# Altium schematic symbol library XFRMR H1102NLT.Schlib: 1 symbol
Pins are listed as number, name and electrical type; pins without a type are passive.

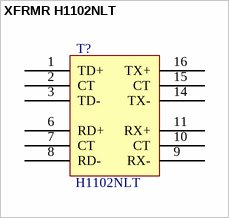
[diagram p0: symbol XFRMR H1102NLT]

## XFRMR H1102NLT
designator T?, comment H1102NLT
Isolation and Data Interface (Encapsulated) Pulse Transformer 1:1 Transmitter, 1:1 Receiver Surface Mount
pins: 1 TD+, 2 CT, 3 TD-, 6 RD+, 7 CT, 8 RD-, 9 RX-, 10 CT, 11 RX+, 14 TX-, 15 CT, 16 TX+